# Altium integrated library NSC LDO.IntLib: 2590 symbols (part 34 of 64)
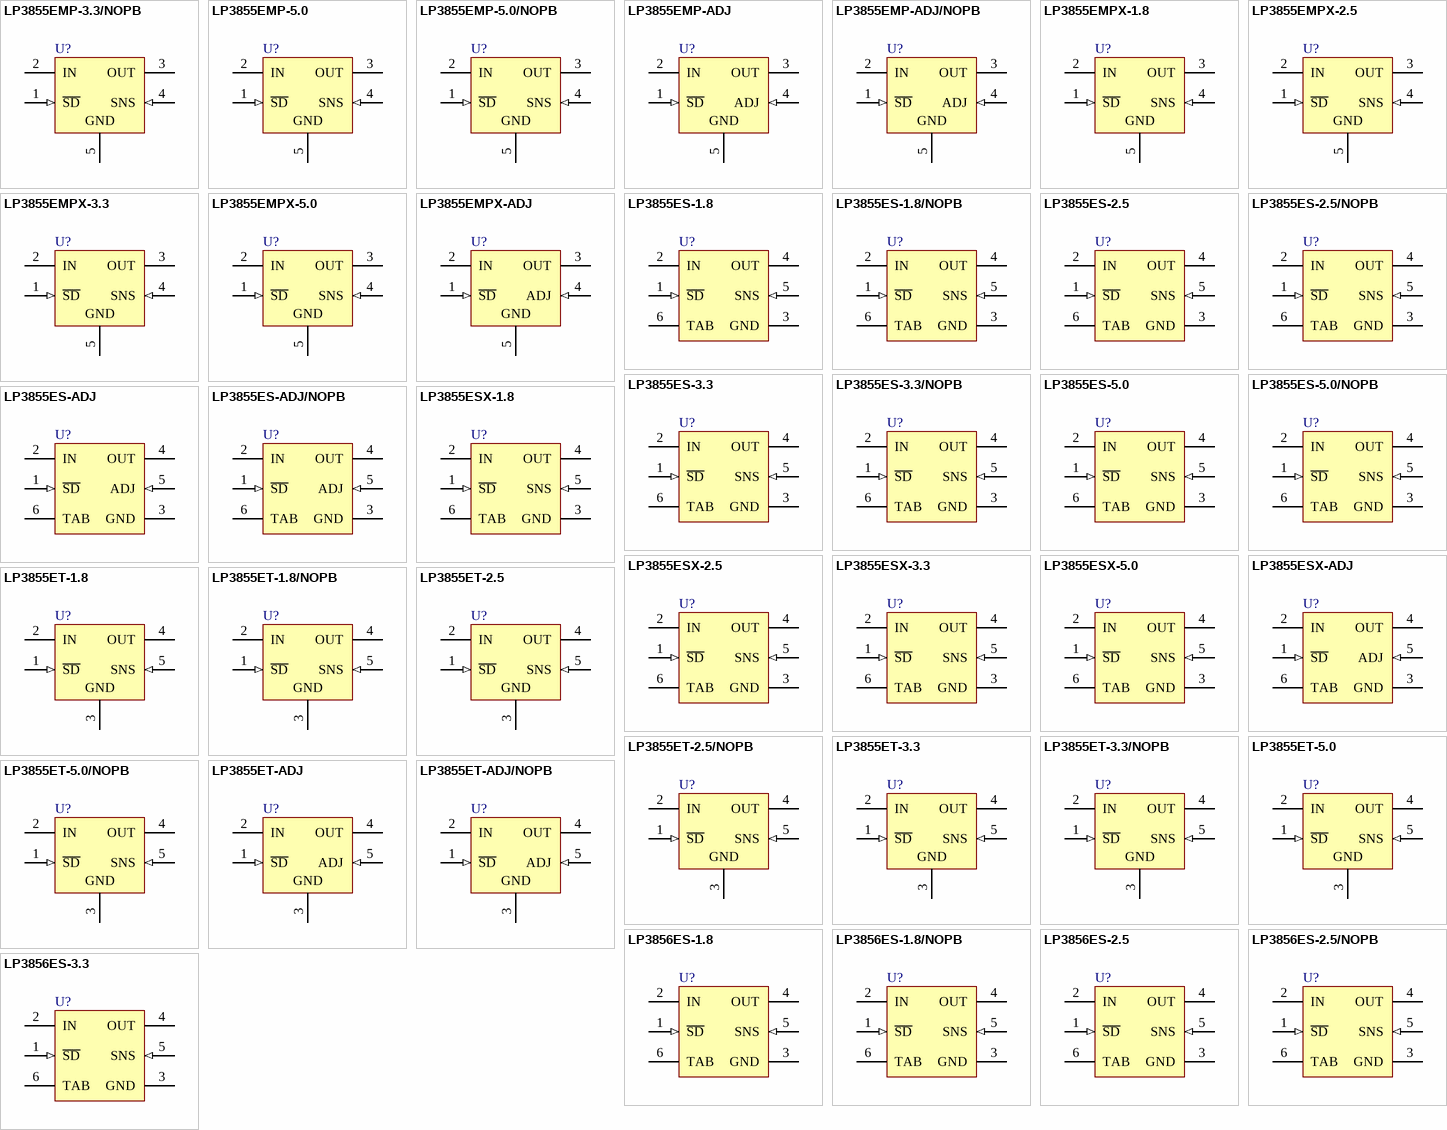
[diagram p98: symbols LP3855EMP-3.3/NOPB to LP3856ES-3.3]

## LP3855ES-ADJ
designator U?
1.5A Fast Ultra Low Dropout Linear Regulator, 5-pin TO-263; PartNumber: LP3855ES-ADJ; Manufacturer: National Semiconductor; PackageTopMarking: NSUZXYTTE#*LP3855ES*-ADJ; PowerWise: N; CompType: LDO IC; Published: 4-Dec-2008; DatasheetVersion: Sep-2008; PackageVersion: revD, Apr-2005; PackageReference: TS5B; Publisher: Altium Limited; PackageDescription: TO-263, Molded, .400 x .390 x .180in, 5 Lead, .067in Pitch, Surface Mount; Supplier 1: Farnell; Supplier Part Number 1: 8188750; RoHS: N; PinCount: 5; Code_JEDEC: MO-169-AB; ComponentLink1Description: LP3855 Datasheet; ComponentLink1URL: http://www.national.com/ds/LP/LP3855-ADJ.pdf; ComponentLink2Description: LP3855 Web Page; ComponentLink2URL: http://www.national.com/pf/LP/LP3855.html; ComponentLink3Description: TS5B Package Page; ComponentLink3URL: http://www.national.com/packaging/folders/ts5b.html
footprint TS5B_N (D2-PAK, 6-Leads, Body 8.6x10.2mm, Pitch 1.7mm, Lead Span 14.1mm, IPC Medium Density)
footprint TS5B_L (D2-PAK, 6-Leads, Body 8.6x10.2mm, Pitch 1.7mm, Lead Span 14.1mm, IPC High Density)
footprint TS5B_M (D2-PAK, 6-Leads, Body 8.6x10.2mm, Pitch 1.7mm, Lead Span 14.1mm, IPC Low Density)
pins: 1 ~{SD} (in), 2 IN (power), 3 GND (power), 4 OUT (power), 5 ADJ (in), 6 TAB (power)

## LP3855ES-ADJ/NOPB
designator U?
1.5A Fast Ultra Low Dropout Linear Regulator, 5-pin TO-263, Pb-Free; PartNumber: LP3855ES-ADJ/NOPB; Manufacturer: National Semiconductor; PackageTopMarking: NSUZXYTTE#*LP3855ES*-ADJ; PowerWise: N; CompType: LDO IC; Published: 1-Mar-2010; DatasheetVersion: Sep-2008; PackageVersion: revD, Apr-2005; PackageReference: TS5B; Publisher: Altium Limited; PackageDescription: TO-263, Molded, .400 x .390 x .180in, 5 Lead, .067in Pitch, Surface Mount; Supplier 1: Digi-Key; Supplier Part Number 1: LP3855ES-ADJ-ND; Supplier 2: Farnell; Supplier Part Number 2: 1685706; RoHS: Y; PinCount: 5; Code_JEDEC: MO-169-AB; ComponentLink1Description: LP3855 Datasheet; ComponentLink1URL: http://www.national.com/ds/LP/LP3855-ADJ.pdf; ComponentLink2Description: LP3855 Web Page; ComponentLink2URL: http://www.national.com/pf/LP/LP3855.html; ComponentLink3Description: TS5B Package Page; ComponentLink3URL: http://www.national.com/packaging/folders/ts5b.html
footprint TS5B_N (D2-PAK, 6-Leads, Body 8.6x10.2mm, Pitch 1.7mm, Lead Span 14.1mm, IPC Medium Density)
footprint TS5B_L (D2-PAK, 6-Leads, Body 8.6x10.2mm, Pitch 1.7mm, Lead Span 14.1mm, IPC High Density)
footprint TS5B_M (D2-PAK, 6-Leads, Body 8.6x10.2mm, Pitch 1.7mm, Lead Span 14.1mm, IPC Low Density)
pins: 1 ~{SD} (in), 2 IN (power), 3 GND (power), 4 OUT (power), 5 ADJ (in), 6 TAB (power)

## LP3855ESX-1.8
designator U?
1.5A Fast Ultra Low Dropout Linear Regulator, 5-pin TO-263; PartNumber: LP3855ESX-1.8; Manufacturer: National Semiconductor; PackageTopMarking: NSUZXYTTE#*LP3855ES*-1.8; PowerWise: N; CompType: LDO IC; Published: 1-Mar-2010; DatasheetVersion: Sep-2006; PackageVersion: revD, Apr-2005; PackageReference: TS5B; Publisher: Altium Limited; PackageDescription: TO-263, Molded, .400 x .390 x .180in, 5 Lead, .067in Pitch, Surface Mount; RoHS: N; PinCount: 5; Code_JEDEC: MO-169-AB; ComponentLink1Description: LP3855 Datasheet; ComponentLink1URL: http://www.national.com/ds/LP/LP3855.pdf; ComponentLink2Description: LP3855 Web Page; ComponentLink2URL: http://www.national.com/pf/LP/LP3855.html; ComponentLink3Description: TS5B Package Page; ComponentLink3URL: http://www.national.com/packaging/folders/ts5b.html
footprint TS5B_N (D2-PAK, 6-Leads, Body 8.6x10.2mm, Pitch 1.7mm, Lead Span 14.1mm, IPC Medium Density)
footprint TS5B_L (D2-PAK, 6-Leads, Body 8.6x10.2mm, Pitch 1.7mm, Lead Span 14.1mm, IPC High Density)
footprint TS5B_M (D2-PAK, 6-Leads, Body 8.6x10.2mm, Pitch 1.7mm, Lead Span 14.1mm, IPC Low Density)
pins: 1 ~{SD} (in), 2 IN (power), 3 GND (power), 4 OUT (power), 5 SNS (in), 6 TAB (power)

## LP3855ESX-2.5
designator U?
1.5A Fast Ultra Low Dropout Linear Regulator, 5-pin TO-263; PartNumber: LP3855ESX-2.5; Manufacturer: National Semiconductor; PackageTopMarking: NSUZXYTTE#*LP3855ES*-2.5; PowerWise: N; CompType: LDO IC; Published: 1-Mar-2010; DatasheetVersion: Sep-2006; PackageVersion: revD, Apr-2005; PackageReference: TS5B; Publisher: Altium Limited; PackageDescription: TO-263, Molded, .400 x .390 x .180in, 5 Lead, .067in Pitch, Surface Mount; RoHS: N; PinCount: 5; Code_JEDEC: MO-169-AB; ComponentLink1Description: LP3855 Datasheet; ComponentLink1URL: http://www.national.com/ds/LP/LP3855.pdf; ComponentLink2Description: LP3855 Web Page; ComponentLink2URL: http://www.national.com/pf/LP/LP3855.html; ComponentLink3Description: TS5B Package Page; ComponentLink3URL: http://www.national.com/packaging/folders/ts5b.html
footprint TS5B_N (D2-PAK, 6-Leads, Body 8.6x10.2mm, Pitch 1.7mm, Lead Span 14.1mm, IPC Medium Density)
footprint TS5B_L (D2-PAK, 6-Leads, Body 8.6x10.2mm, Pitch 1.7mm, Lead Span 14.1mm, IPC High Density)
footprint TS5B_M (D2-PAK, 6-Leads, Body 8.6x10.2mm, Pitch 1.7mm, Lead Span 14.1mm, IPC Low Density)
pins: 1 ~{SD} (in), 2 IN (power), 3 GND (power), 4 OUT (power), 5 SNS (in), 6 TAB (power)

## LP3855ESX-3.3
designator U?
1.5A Fast Ultra Low Dropout Linear Regulator, 5-pin TO-263; PartNumber: LP3855ESX-3.3; Manufacturer: National Semiconductor; PackageTopMarking: NSUZXYTTE#*LP3855ES*-3.3; PowerWise: N; CompType: LDO IC; Published: 1-Mar-2010; DatasheetVersion: Sep-2006; PackageVersion: revD, Apr-2005; PackageReference: TS5B; Publisher: Altium Limited; PackageDescription: TO-263, Molded, .400 x .390 x .180in, 5 Lead, .067in Pitch, Surface Mount; RoHS: N; PinCount: 5; Code_JEDEC: MO-169-AB; ComponentLink1Description: LP3855 Datasheet; ComponentLink1URL: http://www.national.com/ds/LP/LP3855.pdf; ComponentLink2Description: LP3855 Web Page; ComponentLink2URL: http://www.national.com/pf/LP/LP3855.html; ComponentLink3Description: TS5B Package Page; ComponentLink3URL: http://www.national.com/packaging/folders/ts5b.html
footprint TS5B_N (D2-PAK, 6-Leads, Body 8.6x10.2mm, Pitch 1.7mm, Lead Span 14.1mm, IPC Medium Density)
footprint TS5B_L (D2-PAK, 6-Leads, Body 8.6x10.2mm, Pitch 1.7mm, Lead Span 14.1mm, IPC High Density)
footprint TS5B_M (D2-PAK, 6-Leads, Body 8.6x10.2mm, Pitch 1.7mm, Lead Span 14.1mm, IPC Low Density)
pins: 1 ~{SD} (in), 2 IN (power), 3 GND (power), 4 OUT (power), 5 SNS (in), 6 TAB (power)

## LP3855ESX-5.0
designator U?
1.5A Fast Ultra Low Dropout Linear Regulator, 5-pin TO-263; PartNumber: LP3855ESX-5.0; Manufacturer: National Semiconductor; PackageTopMarking: NSUZXYTTE#*LP3855ES*-5.0; PowerWise: N; CompType: LDO IC; Published: 1-Mar-2010; DatasheetVersion: Sep-2006; PackageVersion: revD, Apr-2005; PackageReference: TS5B; Publisher: Altium Limited; PackageDescription: TO-263, Molded, .400 x .390 x .180in, 5 Lead, .067in Pitch, Surface Mount; RoHS: N; PinCount: 5; Code_JEDEC: MO-169-AB; ComponentLink1Description: LP3855 Datasheet; ComponentLink1URL: http://www.national.com/ds/LP/LP3855.pdf; ComponentLink2Description: LP3855 Web Page; ComponentLink2URL: http://www.national.com/pf/LP/LP3855.html; ComponentLink3Description: TS5B Package Page; ComponentLink3URL: http://www.national.com/packaging/folders/ts5b.html
footprint TS5B_N (D2-PAK, 6-Leads, Body 8.6x10.2mm, Pitch 1.7mm, Lead Span 14.1mm, IPC Medium Density)
footprint TS5B_L (D2-PAK, 6-Leads, Body 8.6x10.2mm, Pitch 1.7mm, Lead Span 14.1mm, IPC High Density)
footprint TS5B_M (D2-PAK, 6-Leads, Body 8.6x10.2mm, Pitch 1.7mm, Lead Span 14.1mm, IPC Low Density)
pins: 1 ~{SD} (in), 2 IN (power), 3 GND (power), 4 OUT (power), 5 SNS (in), 6 TAB (power)

## LP3855ESX-ADJ
designator U?
1.5A Fast Ultra Low Dropout Linear Regulator, 5-pin TO-263; PartNumber: LP3855ESX-ADJ; Manufacturer: National Semiconductor; PackageTopMarking: NSUZXYTTE#*LP3855ES*-ADJ; PowerWise: N; CompType: LDO IC; Published: 1-Mar-2010; DatasheetVersion: Sep-2008; PackageVersion: revD, Apr-2005; PackageReference: TS5B; Publisher: Altium Limited; PackageDescription: TO-263, Molded, .400 x .390 x .180in, 5 Lead, .067in Pitch, Surface Mount; RoHS: N; PinCount: 5; Code_JEDEC: MO-169-AB; ComponentLink1Description: LP3855 Datasheet; ComponentLink1URL: http://www.national.com/ds/LP/LP3855-ADJ.pdf; ComponentLink2Description: LP3855 Web Page; ComponentLink2URL: http://www.national.com/pf/LP/LP3855.html; ComponentLink3Description: TS5B Package Page; ComponentLink3URL: http://www.national.com/packaging/folders/ts5b.html
footprint TS5B_N (D2-PAK, 6-Leads, Body 8.6x10.2mm, Pitch 1.7mm, Lead Span 14.1mm, IPC Medium Density)
footprint TS5B_L (D2-PAK, 6-Leads, Body 8.6x10.2mm, Pitch 1.7mm, Lead Span 14.1mm, IPC High Density)
footprint TS5B_M (D2-PAK, 6-Leads, Body 8.6x10.2mm, Pitch 1.7mm, Lead Span 14.1mm, IPC Low Density)
pins: 1 ~{SD} (in), 2 IN (power), 3 GND (power), 4 OUT (power), 5 ADJ (in), 6 TAB (power)

## LP3855ET-1.8
designator U?
1.5A Fast Ultra Low Dropout Linear Regulator, 5-pin TO-220; PartNumber: LP3855ET-1.8; Manufacturer: National Semiconductor; PackageTopMarking: NSUZXYTTE#*LP3855ET*-1.8; PowerWise: N; CompType: LDO IC; Published: 4-Dec-2008; DatasheetVersion: Sep-2006; PackageVersion: revA, Oct-1989; PackageReference: T05D; Publisher: Altium Limited; PackageDescription: TO-220, Molded, Stagger Bend, 5 Lead; Supplier 1: Farnell; Supplier Part Number 1: 8188106; RoHS: N; PinCount: 5; ComponentLink1Description: LP3855 Datasheet; ComponentLink1URL: http://www.national.com/ds/LP/LP3855.pdf; ComponentLink2Description: LP3855 Web Page; ComponentLink2URL: http://www.national.com/pf/LP/LP3855.html; ComponentLink3Description: T05D Package Page; ComponentLink3URL: http://www.national.com/packaging/folders/t05d.html
footprint T05D (TO, Thru-Hole, Vertical, Heatsink Mounted; 5 Bent Staggered Leads; Body 10.3x8.6x4.6mm, Pitch 1.7 mm)
pins: 1 ~{SD} (in), 2 IN (power), 3 GND (power), 4 OUT (power), 5 SNS (in)

## LP3855ET-1.8/NOPB
designator U?
1.5A Fast Ultra Low Dropout Linear Regulator, 5-pin TO-220, Pb-Free; PartNumber: LP3855ET-1.8/NOPB; Manufacturer: National Semiconductor; PackageTopMarking: NSUZXYTTE#*LP3855ET*-1.8; PowerWise: N; CompType: LDO IC; Published: 1-Mar-2010; DatasheetVersion: Sep-2006; PackageVersion: revA, Oct-1989; PackageReference: T05D; Publisher: Altium Limited; PackageDescription: TO-220, Molded, Stagger Bend, 5 Lead; Supplier 1: Digi-Key; Supplier Part Number 1: LP3855ET-1.8/NOPB-ND; RoHS: Y; PinCount: 5; ComponentLink1Description: LP3855 Datasheet; ComponentLink1URL: http://www.national.com/ds/LP/LP3855.pdf; ComponentLink2Description: LP3855 Web Page; ComponentLink2URL: http://www.national.com/pf/LP/LP3855.html; ComponentLink3Description: T05D Package Page; ComponentLink3URL: http://www.national.com/packaging/folders/t05d.html
footprint T05D (TO, Thru-Hole, Vertical, Heatsink Mounted; 5 Bent Staggered Leads; Body 10.3x8.6x4.6mm, Pitch 1.7 mm)
pins: 1 ~{SD} (in), 2 IN (power), 3 GND (power), 4 OUT (power), 5 SNS (in)

## LP3855ET-2.5
designator U?
1.5A Fast Ultra Low Dropout Linear Regulator, 5-pin TO-220; PartNumber: LP3855ET-2.5; Manufacturer: National Semiconductor; PackageTopMarking: NSUZXYTTE#*LP3855ET*-2.5; PowerWise: N; CompType: LDO IC; Published: 4-Dec-2008; DatasheetVersion: Sep-2006; PackageVersion: revA, Oct-1989; PackageReference: T05D; Publisher: Altium Limited; PackageDescription: TO-220, Molded, Stagger Bend, 5 Lead; Supplier 1: Farnell; Supplier Part Number 1: 8188114; RoHS: N; PinCount: 5; ComponentLink1Description: LP3855 Datasheet; ComponentLink1URL: http://www.national.com/ds/LP/LP3855.pdf; ComponentLink2Description: LP3855 Web Page; ComponentLink2URL: http://www.national.com/pf/LP/LP3855.html; ComponentLink3Description: T05D Package Page; ComponentLink3URL: http://www.national.com/packaging/folders/t05d.html
footprint T05D (TO, Thru-Hole, Vertical, Heatsink Mounted; 5 Bent Staggered Leads; Body 10.3x8.6x4.6mm, Pitch 1.7 mm)
pins: 1 ~{SD} (in), 2 IN (power), 3 GND (power), 4 OUT (power), 5 SNS (in)

## LP3855ET-2.5/NOPB
designator U?
1.5A Fast Ultra Low Dropout Linear Regulator, 5-pin TO-220, Pb-Free; PartNumber: LP3855ET-2.5/NOPB; Manufacturer: National Semiconductor; PackageTopMarking: NSUZXYTTE#*LP3855ET*-2.5; PowerWise: N; CompType: LDO IC; Published: 1-Mar-2010; DatasheetVersion: Sep-2006; PackageVersion: revA, Oct-1989; PackageReference: T05D; Publisher: Altium Limited; PackageDescription: TO-220, Molded, Stagger Bend, 5 Lead; Supplier 1: Digi-Key; Supplier Part Number 1: LP3855ET-2.5-ND; RoHS: Y; PinCount: 5; ComponentLink1Description: LP3855 Datasheet; ComponentLink1URL: http://www.national.com/ds/LP/LP3855.pdf; ComponentLink2Description: LP3855 Web Page; ComponentLink2URL: http://www.national.com/pf/LP/LP3855.html; ComponentLink3Description: T05D Package Page; ComponentLink3URL: http://www.national.com/packaging/folders/t05d.html
footprint T05D (TO, Thru-Hole, Vertical, Heatsink Mounted; 5 Bent Staggered Leads; Body 10.3x8.6x4.6mm, Pitch 1.7 mm)
pins: 1 ~{SD} (in), 2 IN (power), 3 GND (power), 4 OUT (power), 5 SNS (in)

## LP3855ET-3.3
designator U?
1.5A Fast Ultra Low Dropout Linear Regulator, 5-pin TO-220; PartNumber: LP3855ET-3.3; Manufacturer: National Semiconductor; PackageTopMarking: NSUZXYTTE#*LP3855ET*-3.3; PowerWise: N; CompType: LDO IC; Published: 4-Dec-2008; DatasheetVersion: Sep-2006; PackageVersion: revA, Oct-1989; PackageReference: T05D; Publisher: Altium Limited; PackageDescription: TO-220, Molded, Stagger Bend, 5 Lead; Supplier 1: Farnell; Supplier Part Number 1: 8188122; RoHS: N; PinCount: 5; ComponentLink1Description: LP3855 Datasheet; ComponentLink1URL: http://www.national.com/ds/LP/LP3855.pdf; ComponentLink2Description: LP3855 Web Page; ComponentLink2URL: http://www.national.com/pf/LP/LP3855.html; ComponentLink3Description: T05D Package Page; ComponentLink3URL: http://www.national.com/packaging/folders/t05d.html
footprint T05D (TO, Thru-Hole, Vertical, Heatsink Mounted; 5 Bent Staggered Leads; Body 10.3x8.6x4.6mm, Pitch 1.7 mm)
pins: 1 ~{SD} (in), 2 IN (power), 3 GND (power), 4 OUT (power), 5 SNS (in)

## LP3855ET-3.3/NOPB
designator U?
1.5A Fast Ultra Low Dropout Linear Regulator, 5-pin TO-220, Pb-Free; PartNumber: LP3855ET-3.3/NOPB; Manufacturer: National Semiconductor; PackageTopMarking: NSUZXYTTE#*LP3855ET*-3.3; PowerWise: N; CompType: LDO IC; Published: 1-Mar-2010; DatasheetVersion: Sep-2006; PackageVersion: revA, Oct-1989; PackageReference: T05D; Publisher: Altium Limited; PackageDescription: TO-220, Molded, Stagger Bend, 5 Lead; Supplier 1: Digi-Key; Supplier Part Number 1: LP3855ET-3.3-ND; RoHS: Y; PinCount: 5; ComponentLink1Description: LP3855 Datasheet; ComponentLink1URL: http://www.national.com/ds/LP/LP3855.pdf; ComponentLink2Description: LP3855 Web Page; ComponentLink2URL: http://www.national.com/pf/LP/LP3855.html; ComponentLink3Description: T05D Package Page; ComponentLink3URL: http://www.national.com/packaging/folders/t05d.html
footprint T05D (TO, Thru-Hole, Vertical, Heatsink Mounted; 5 Bent Staggered Leads; Body 10.3x8.6x4.6mm, Pitch 1.7 mm)
pins: 1 ~{SD} (in), 2 IN (power), 3 GND (power), 4 OUT (power), 5 SNS (in)

## LP3855ET-5.0
designator U?
1.5A Fast Ultra Low Dropout Linear Regulator, 5-pin TO-220; PartNumber: LP3855ET-5.0; Manufacturer: National Semiconductor; PackageTopMarking: NSUZXYTTE#*LP3855ET*-5.0; PowerWise: N; CompType: LDO IC; Published: 4-Dec-2008; DatasheetVersion: Sep-2006; PackageVersion: revA, Oct-1989; PackageReference: T05D; Publisher: Altium Limited; PackageDescription: TO-220, Molded, Stagger Bend, 5 Lead; Supplier 1: Farnell; Supplier Part Number 1: 8188130; RoHS: N; PinCount: 5; ComponentLink1Description: LP3855 Datasheet; ComponentLink1URL: http://www.national.com/ds/LP/LP3855.pdf; ComponentLink2Description: LP3855 Web Page; ComponentLink2URL: http://www.national.com/pf/LP/LP3855.html; ComponentLink3Description: T05D Package Page; ComponentLink3URL: http://www.national.com/packaging/folders/t05d.html
footprint T05D (TO, Thru-Hole, Vertical, Heatsink Mounted; 5 Bent Staggered Leads; Body 10.3x8.6x4.6mm, Pitch 1.7 mm)
pins: 1 ~{SD} (in), 2 IN (power), 3 GND (power), 4 OUT (power), 5 SNS (in)

## LP3855ET-5.0/NOPB
designator U?
1.5A Fast Ultra Low Dropout Linear Regulator, 5-pin TO-220, Pb-Free; PartNumber: LP3855ET-5.0/NOPB; Manufacturer: National Semiconductor; PackageTopMarking: NSUZXYTTE#*LP3855ET*-5.0; PowerWise: N; CompType: LDO IC; Published: 1-Mar-2010; DatasheetVersion: Sep-2006; PackageVersion: revA, Oct-1989; PackageReference: T05D; Publisher: Altium Limited; PackageDescription: TO-220, Molded, Stagger Bend, 5 Lead; Supplier 1: Digi-Key; Supplier Part Number 1: LP3855ET-5.0-ND; RoHS: Y; PinCount: 5; ComponentLink1Description: LP3855 Datasheet; ComponentLink1URL: http://www.national.com/ds/LP/LP3855.pdf; ComponentLink2Description: LP3855 Web Page; ComponentLink2URL: http://www.national.com/pf/LP/LP3855.html; ComponentLink3Description: T05D Package Page; ComponentLink3URL: http://www.national.com/packaging/folders/t05d.html
footprint T05D (TO, Thru-Hole, Vertical, Heatsink Mounted; 5 Bent Staggered Leads; Body 10.3x8.6x4.6mm, Pitch 1.7 mm)
pins: 1 ~{SD} (in), 2 IN (power), 3 GND (power), 4 OUT (power), 5 SNS (in)

## LP3855ET-ADJ
designator U?
1.5A Fast Ultra Low Dropout Linear Regulator, 5-pin TO-220; PartNumber: LP3855ET-ADJ; Manufacturer: National Semiconductor; PackageTopMarking: NSUZXYTTE#*LP3855ET*-ADJ; PowerWise: N; CompType: LDO IC; Published: 4-Dec-2008; DatasheetVersion: Sep-2008; PackageVersion: revA, Oct-1989; PackageReference: T05D; Publisher: Altium Limited; PackageDescription: TO-220, Molded, Stagger Bend, 5 Lead; Supplier 1: Farnell; Supplier Part Number 1: 8188742; RoHS: Y; PinCount: 5; ComponentLink1Description: LP3855-ADJ Datasheet; ComponentLink1URL: http://www.national.com/ds/LP/LP3855-ADJ.pdf; ComponentLink2Description: LP3855-ADJ Web Page; ComponentLink2URL: http://www.national.com/pf/LP/LP3855-ADJ.html; ComponentLink3Description: T05D Package Page; ComponentLink3URL: http://www.national.com/packaging/folders/t05d.html
footprint T05D (TO, Thru-Hole, Vertical, Heatsink Mounted; 5 Bent Staggered Leads; Body 10.3x8.6x4.6mm, Pitch 1.7 mm)
pins: 1 ~{SD} (in), 2 IN (power), 3 GND (power), 4 OUT (power), 5 ADJ (in)

## LP3855ET-ADJ/NOPB
designator U?
1.5A Fast Ultra Low Dropout Linear Regulator, 5-pin TO-220, Pb-Free; PartNumber: LP3855ET-ADJ/NOPB; Manufacturer: National Semiconductor; PackageTopMarking: NSUZXYTTE#*LP3855ET*-ADJ; PowerWise: N; CompType: LDO IC; Published: 1-Mar-2010; DatasheetVersion: Sep-2008; PackageVersion: revA, Oct-1989; PackageReference: T05D; Publisher: Altium Limited; PackageDescription: TO-220, Molded, Stagger Bend, 5 Lead; Supplier 1: Digi-Key; Supplier Part Number 1: LP3855ET-ADJ-ND; RoHS: Y; PinCount: 5; ComponentLink1Description: LP3855 Datasheet; ComponentLink1URL: http://www.national.com/ds/LP/LP3855-ADJ.pdf; ComponentLink2Description: LP3855 Web Page; ComponentLink2URL: http://www.national.com/pf/LP/LP3855.html; ComponentLink3Description: T05D Package Page; ComponentLink3URL: http://www.national.com/packaging/folders/t05d.html
footprint T05D (TO, Thru-Hole, Vertical, Heatsink Mounted; 5 Bent Staggered Leads; Body 10.3x8.6x4.6mm, Pitch 1.7 mm)
pins: 1 ~{SD} (in), 2 IN (power), 3 GND (power), 4 OUT (power), 5 ADJ (in)

## LP3856ES-1.8
designator U?
3A Fast Ultra Low Dropout Linear Regulator, 5-pin TO-263; PartNumber: LP3856ES-1.8; Manufacturer: National Semiconductor; PackageTopMarking: NSUZXYTTE#*LP3856ES*-1.8; PowerWise: N; CompType: LDO IC; Published: 4-Dec-2008; DatasheetVersion: Sep-2006; PackageVersion: revD, Apr-2005; PackageReference: TS5B; Publisher: Altium Limited; PackageDescription: TO-263, Molded, .400 x .390 x .180in, 5 Lead, .067in Pitch, Surface Mount; Supplier 1: Farnell; Supplier Part Number 1: 8188149; RoHS: N; PinCount: 5; Code_JEDEC: MO-169-AB; ComponentLink1Description: LP3856 Datasheet; ComponentLink1URL: http://www.national.com/ds/LP/LP3856.pdf; ComponentLink2Description: LP3856 Web Page; ComponentLink2URL: http://www.national.com/pf/LP/LP3856.html; ComponentLink3Description: TS5B Package Page; ComponentLink3URL: http://www.national.com/packaging/folders/ts5b.html
footprint TS5B_N (D2-PAK, 6-Leads, Body 8.6x10.2mm, Pitch 1.7mm, Lead Span 14.1mm, IPC Medium Density)
footprint TS5B_L (D2-PAK, 6-Leads, Body 8.6x10.2mm, Pitch 1.7mm, Lead Span 14.1mm, IPC High Density)
footprint TS5B_M (D2-PAK, 6-Leads, Body 8.6x10.2mm, Pitch 1.7mm, Lead Span 14.1mm, IPC Low Density)
pins: 1 ~{SD} (in), 2 IN (power), 3 GND (power), 4 OUT (power), 5 SNS (in), 6 TAB (power)

## LP3856ES-1.8/NOPB
designator U?
3A Fast Ultra Low Dropout Linear Regulator, 5-pin TO-263, Pb-Free; PartNumber: LP3856ES-1.8/NOPB; Manufacturer: National Semiconductor; PackageTopMarking: NSUZXYTTE#*LP3856ES*-1.8; PowerWise: N; CompType: LDO IC; Published: 1-Mar-2010; DatasheetVersion: Sep-2006; PackageVersion: revD, Apr-2005; PackageReference: TS5B; Publisher: Altium Limited; PackageDescription: TO-263, Molded, .400 x .390 x .180in, 5 Lead, .067in Pitch, Surface Mount; Supplier 1: Digi-Key; Supplier Part Number 1: LP3856ES-1.8-ND; Supplier 2: Farnell; Supplier Part Number 2: 1559621; RoHS: Y; PinCount: 5; Code_JEDEC: MO-169-AB; ComponentLink1Description: LP3856 Datasheet; ComponentLink1URL: http://www.national.com/ds/LP/LP3856.pdf; ComponentLink2Description: LP3856 Web Page; ComponentLink2URL: http://www.national.com/pf/LP/LP3856.html; ComponentLink3Description: TS5B Package Page; ComponentLink3URL: http://www.national.com/packaging/folders/ts5b.html
footprint TS5B_N (D2-PAK, 6-Leads, Body 8.6x10.2mm, Pitch 1.7mm, Lead Span 14.1mm, IPC Medium Density)
footprint TS5B_L (D2-PAK, 6-Leads, Body 8.6x10.2mm, Pitch 1.7mm, Lead Span 14.1mm, IPC High Density)
footprint TS5B_M (D2-PAK, 6-Leads, Body 8.6x10.2mm, Pitch 1.7mm, Lead Span 14.1mm, IPC Low Density)
pins: 1 ~{SD} (in), 2 IN (power), 3 GND (power), 4 OUT (power), 5 SNS (in), 6 TAB (power)

## LP3856ES-2.5
designator U?
3A Fast Ultra Low Dropout Linear Regulator, 5-pin TO-263; PartNumber: LP3856ES-2.5; Manufacturer: National Semiconductor; PackageTopMarking: NSUZXYTTE#*LP3856ES*-2.5; PowerWise: N; CompType: LDO IC; Published: 4-Dec-2008; DatasheetVersion: Sep-2006; PackageVersion: revD, Apr-2005; PackageReference: TS5B; Publisher: Altium Limited; PackageDescription: TO-263, Molded, .400 x .390 x .180in, 5 Lead, .067in Pitch, Surface Mount; Supplier 1: Farnell; Supplier Part Number 1: 8188157; RoHS: N; PinCount: 5; Code_JEDEC: MO-169-AB; ComponentLink1Description: LP3856 Datasheet; ComponentLink1URL: http://www.national.com/ds/LP/LP3856.pdf; ComponentLink2Description: LP3856 Web Page; ComponentLink2URL: http://www.national.com/pf/LP/LP3856.html; ComponentLink3Description: TS5B Package Page; ComponentLink3URL: http://www.national.com/packaging/folders/ts5b.html
footprint TS5B_N (D2-PAK, 6-Leads, Body 8.6x10.2mm, Pitch 1.7mm, Lead Span 14.1mm, IPC Medium Density)
footprint TS5B_L (D2-PAK, 6-Leads, Body 8.6x10.2mm, Pitch 1.7mm, Lead Span 14.1mm, IPC High Density)
footprint TS5B_M (D2-PAK, 6-Leads, Body 8.6x10.2mm, Pitch 1.7mm, Lead Span 14.1mm, IPC Low Density)
pins: 1 ~{SD} (in), 2 IN (power), 3 GND (power), 4 OUT (power), 5 SNS (in), 6 TAB (power)

## LP3856ES-2.5/NOPB
designator U?
3A Fast Ultra Low Dropout Linear Regulator, 5-pin TO-263, Pb-Free; PartNumber: LP3856ES-2.5/NOPB; Manufacturer: National Semiconductor; PackageTopMarking: NSUZXYTTE#*LP3856ES*-2.5; PowerWise: N; CompType: LDO IC; Published: 1-Mar-2010; DatasheetVersion: Sep-2006; PackageVersion: revD, Apr-2005; PackageReference: TS5B; Publisher: Altium Limited; PackageDescription: TO-263, Molded, .400 x .390 x .180in, 5 Lead, .067in Pitch, Surface Mount; Supplier 1: Digi-Key; Supplier Part Number 1: LP3856ES-2.5-ND; Supplier 2: Farnell; Supplier Part Number 2: 1685707; RoHS: Y; PinCount: 5; Code_JEDEC: MO-169-AB; ComponentLink1Description: LP3856 Datasheet; ComponentLink1URL: http://www.national.com/ds/LP/LP3856.pdf; ComponentLink2Description: LP3856 Web Page; ComponentLink2URL: http://www.national.com/pf/LP/LP3856.html; ComponentLink3Description: TS5B Package Page; ComponentLink3URL: http://www.national.com/packaging/folders/ts5b.html
footprint TS5B_N (D2-PAK, 6-Leads, Body 8.6x10.2mm, Pitch 1.7mm, Lead Span 14.1mm, IPC Medium Density)
footprint TS5B_L (D2-PAK, 6-Leads, Body 8.6x10.2mm, Pitch 1.7mm, Lead Span 14.1mm, IPC High Density)
footprint TS5B_M (D2-PAK, 6-Leads, Body 8.6x10.2mm, Pitch 1.7mm, Lead Span 14.1mm, IPC Low Density)
pins: 1 ~{SD} (in), 2 IN (power), 3 GND (power), 4 OUT (power), 5 SNS (in), 6 TAB (power)

## LP3856ES-3.3
designator U?
3A Fast Ultra Low Dropout Linear Regulator, 5-pin TO-263; PartNumber: LP3856ES-3.3; Manufacturer: National Semiconductor; PackageTopMarking: NSUZXYTTE#*LP3856ES*-3.3; PowerWise: N; CompType: LDO IC; Published: 4-Dec-2008; DatasheetVersion: Sep-2006; PackageVersion: revD, Apr-2005; PackageReference: TS5B; Publisher: Altium Limited; PackageDescription: TO-263, Molded, .400 x .390 x .180in, 5 Lead, .067in Pitch, Surface Mount; Supplier 1: Farnell; Supplier Part Number 1: 8188165; RoHS: N; PinCount: 5; Code_JEDEC: MO-169-AB; ComponentLink1Description: LP3856 Datasheet; ComponentLink1URL: http://www.national.com/ds/LP/LP3856.pdf; ComponentLink2Description: LP3856 Web Page; ComponentLink2URL: http://www.national.com/pf/LP/LP3856.html; ComponentLink3Description: TS5B Package Page; ComponentLink3URL: http://www.national.com/packaging/folders/ts5b.html
footprint TS5B_N (D2-PAK, 6-Leads, Body 8.6x10.2mm, Pitch 1.7mm, Lead Span 14.1mm, IPC Medium Density)
footprint TS5B_L (D2-PAK, 6-Leads, Body 8.6x10.2mm, Pitch 1.7mm, Lead Span 14.1mm, IPC High Density)
footprint TS5B_M (D2-PAK, 6-Leads, Body 8.6x10.2mm, Pitch 1.7mm, Lead Span 14.1mm, IPC Low Density)
pins: 1 ~{SD} (in), 2 IN (power), 3 GND (power), 4 OUT (power), 5 SNS (in), 6 TAB (power)

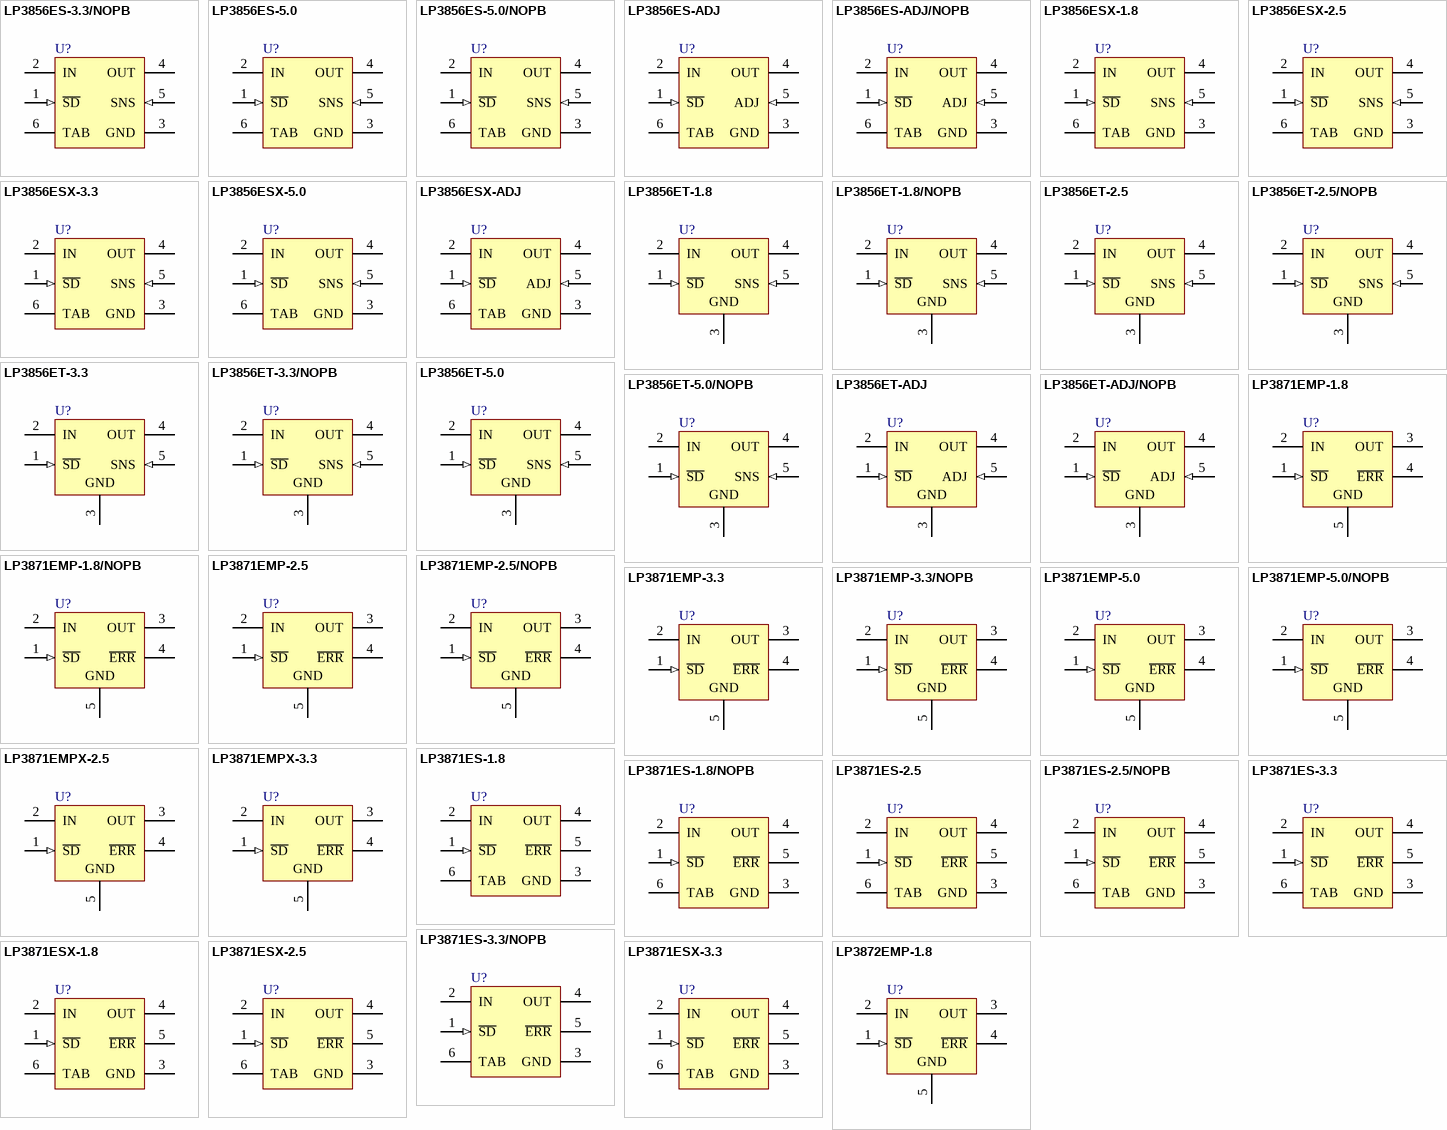
[diagram p35: symbols LP3856ES-3.3/NOPB to LP3872EMP-1.8]

## LP3856ES-3.3/NOPB
designator U?
3A Fast Ultra Low Dropout Linear Regulator, 5-pin TO-263, Pb-Free; PartNumber: LP3856ES-3.3/NOPB; Manufacturer: National Semiconductor; PackageTopMarking: NSUZXYTTE#*LP3856ES*-3.3; PowerWise: N; CompType: LDO IC; Published: 1-Mar-2010; DatasheetVersion: Sep-2006; PackageVersion: revD, Apr-2005; PackageReference: TS5B; Publisher: Altium Limited; PackageDescription: TO-263, Molded, .400 x .390 x .180in, 5 Lead, .067in Pitch, Surface Mount; Supplier 1: Digi-Key; Supplier Part Number 1: LP3856ES-3.3-ND; Supplier 2: Farnell; Supplier Part Number 2: 1559623; RoHS: Y; PinCount: 5; Code_JEDEC: MO-169-AB; ComponentLink1Description: LP3856 Datasheet; ComponentLink1URL: http://www.national.com/ds/LP/LP3856.pdf; ComponentLink2Description: LP3856 Web Page; ComponentLink2URL: http://www.national.com/pf/LP/LP3856.html; ComponentLink3Description: TS5B Package Page; ComponentLink3URL: http://www.national.com/packaging/folders/ts5b.html
footprint TS5B_N (D2-PAK, 6-Leads, Body 8.6x10.2mm, Pitch 1.7mm, Lead Span 14.1mm, IPC Medium Density)
footprint TS5B_L (D2-PAK, 6-Leads, Body 8.6x10.2mm, Pitch 1.7mm, Lead Span 14.1mm, IPC High Density)
footprint TS5B_M (D2-PAK, 6-Leads, Body 8.6x10.2mm, Pitch 1.7mm, Lead Span 14.1mm, IPC Low Density)
pins: 1 ~{SD} (in), 2 IN (power), 3 GND (power), 4 OUT (power), 5 SNS (in), 6 TAB (power)

## LP3856ES-5.0
designator U?
3A Fast Ultra Low Dropout Linear Regulator, 5-pin TO-263; PartNumber: LP3856ES-5.0; Manufacturer: National Semiconductor; PackageTopMarking: NSUZXYTTE#*LP3856ES*-5.0; PowerWise: N; CompType: LDO IC; Published: 4-Dec-2008; DatasheetVersion: Sep-2006; PackageVersion: revD, Apr-2005; PackageReference: TS5B; Publisher: Altium Limited; PackageDescription: TO-263, Molded, .400 x .390 x .180in, 5 Lead, .067in Pitch, Surface Mount; Supplier 1: Farnell; Supplier Part Number 1: 8188173; RoHS: N; PinCount: 5; Code_JEDEC: MO-169-AB; ComponentLink1Description: LP3856 Datasheet; ComponentLink1URL: http://www.national.com/ds/LP/LP3856.pdf; ComponentLink2Description: LP3856 Web Page; ComponentLink2URL: http://www.national.com/pf/LP/LP3856.html; ComponentLink3Description: TS5B Package Page; ComponentLink3URL: http://www.national.com/packaging/folders/ts5b.html
footprint TS5B_N (D2-PAK, 6-Leads, Body 8.6x10.2mm, Pitch 1.7mm, Lead Span 14.1mm, IPC Medium Density)
footprint TS5B_L (D2-PAK, 6-Leads, Body 8.6x10.2mm, Pitch 1.7mm, Lead Span 14.1mm, IPC High Density)
footprint TS5B_M (D2-PAK, 6-Leads, Body 8.6x10.2mm, Pitch 1.7mm, Lead Span 14.1mm, IPC Low Density)
pins: 1 ~{SD} (in), 2 IN (power), 3 GND (power), 4 OUT (power), 5 SNS (in), 6 TAB (power)

## LP3856ES-5.0/NOPB
designator U?
3A Fast Ultra Low Dropout Linear Regulator, 5-pin TO-263, Pb-Free; PartNumber: LP3856ES-5.0/NOPB; Manufacturer: National Semiconductor; PackageTopMarking: NSUZXYTTE#*LP3856ES*-5.0; PowerWise: N; CompType: LDO IC; Published: 1-Mar-2010; DatasheetVersion: Sep-2006; PackageVersion: revD, Apr-2005; PackageReference: TS5B; Publisher: Altium Limited; PackageDescription: TO-263, Molded, .400 x .390 x .180in, 5 Lead, .067in Pitch, Surface Mount; Supplier 1: Digi-Key; Supplier Part Number 1: LP3856ES-5.0-ND; RoHS: Y; PinCount: 5; Code_JEDEC: MO-169-AB; ComponentLink1Description: LP3856 Datasheet; ComponentLink1URL: http://www.national.com/ds/LP/LP3856.pdf; ComponentLink2Description: LP3856 Web Page; ComponentLink2URL: http://www.national.com/pf/LP/LP3856.html; ComponentLink3Description: TS5B Package Page; ComponentLink3URL: http://www.national.com/packaging/folders/ts5b.html
footprint TS5B_N (D2-PAK, 6-Leads, Body 8.6x10.2mm, Pitch 1.7mm, Lead Span 14.1mm, IPC Medium Density)
footprint TS5B_L (D2-PAK, 6-Leads, Body 8.6x10.2mm, Pitch 1.7mm, Lead Span 14.1mm, IPC High Density)
footprint TS5B_M (D2-PAK, 6-Leads, Body 8.6x10.2mm, Pitch 1.7mm, Lead Span 14.1mm, IPC Low Density)
pins: 1 ~{SD} (in), 2 IN (power), 3 GND (power), 4 OUT (power), 5 SNS (in), 6 TAB (power)

## LP3856ES-ADJ
designator U?
3A Fast Ultra Low Dropout Linear Regulator, 5-pin TO-263; PartNumber: LP3856ES-ADJ; Manufacturer: National Semiconductor; PackageTopMarking: NSUZXYTTE#*LP3856ES*-ADJ; PowerWise: N; CompType: LDO IC; Published: 4-Dec-2008; DatasheetVersion: Sep-2006; PackageVersion: revD, Apr-2005; PackageReference: TS5B; Publisher: Altium Limited; PackageDescription: TO-263, Molded, .400 x .390 x .180in, 5 Lead, .067in Pitch, Surface Mount; Supplier 1: Farnell; Supplier Part Number 1: 8188734; RoHS: N; PinCount: 5; Code_JEDEC: MO-169-AB; ComponentLink1Description: LP3856 Datasheet; ComponentLink1URL: http://www.national.com/ds/LP/LP3856-ADJ.pdf; ComponentLink2Description: LP3856 Web Page; ComponentLink2URL: http://www.national.com/pf/LP/LP3856.html; ComponentLink3Description: TS5B Package Page; ComponentLink3URL: http://www.national.com/packaging/folders/ts5b.html
footprint TS5B_N (D2-PAK, 6-Leads, Body 8.6x10.2mm, Pitch 1.7mm, Lead Span 14.1mm, IPC Medium Density)
footprint TS5B_L (D2-PAK, 6-Leads, Body 8.6x10.2mm, Pitch 1.7mm, Lead Span 14.1mm, IPC High Density)
footprint TS5B_M (D2-PAK, 6-Leads, Body 8.6x10.2mm, Pitch 1.7mm, Lead Span 14.1mm, IPC Low Density)
pins: 1 ~{SD} (in), 2 IN (power), 3 GND (power), 4 OUT (power), 5 ADJ (in), 6 TAB (power)

## LP3856ES-ADJ/NOPB
designator U?
3A Fast Ultra Low Dropout Linear Regulator, 5-pin TO-263, Pb-Free; PartNumber: LP3856ES-ADJ/NOPB; Manufacturer: National Semiconductor; PackageTopMarking: NSUZXYTTE#*LP3856ES*-ADJ; PowerWise: N; CompType: LDO IC; Published: 1-Mar-2010; DatasheetVersion: Sep-2006; PackageVersion: revD, Apr-2005; PackageReference: TS5B; Publisher: Altium Limited; PackageDescription: TO-263, Molded, .400 x .390 x .180in, 5 Lead, .067in Pitch, Surface Mount; Supplier 1: Digi-Key; Supplier Part Number 1: LP3856ES-ADJ-ND; Supplier 2: Farnell; Supplier Part Number 2: 1559619; RoHS: Y; PinCount: 5; Code_JEDEC: MO-169-AB; ComponentLink1Description: LP3856 Datasheet; ComponentLink1URL: http://www.national.com/ds/LP/LP3856-ADJ.pdf; ComponentLink2Description: LP3856 Web Page; ComponentLink2URL: http://www.national.com/pf/LP/LP3856.html; ComponentLink3Description: TS5B Package Page; ComponentLink3URL: http://www.national.com/packaging/folders/ts5b.html
footprint TS5B_N (D2-PAK, 6-Leads, Body 8.6x10.2mm, Pitch 1.7mm, Lead Span 14.1mm, IPC Medium Density)
footprint TS5B_L (D2-PAK, 6-Leads, Body 8.6x10.2mm, Pitch 1.7mm, Lead Span 14.1mm, IPC High Density)
footprint TS5B_M (D2-PAK, 6-Leads, Body 8.6x10.2mm, Pitch 1.7mm, Lead Span 14.1mm, IPC Low Density)
pins: 1 ~{SD} (in), 2 IN (power), 3 GND (power), 4 OUT (power), 5 ADJ (in), 6 TAB (power)

## LP3856ESX-1.8
designator U?
3A Fast Ultra Low Dropout Linear Regulator, 5-pin TO-263; PartNumber: LP3856ESX-1.8; Manufacturer: National Semiconductor; PackageTopMarking: NSUZXYTTE#*LP3856ES*-1.8; PowerWise: N; CompType: LDO IC; Published: 1-Mar-2010; DatasheetVersion: Sep-2006; PackageVersion: revD, Apr-2005; PackageReference: TS5B; Publisher: Altium Limited; PackageDescription: TO-263, Molded, .400 x .390 x .180in, 5 Lead, .067in Pitch, Surface Mount; RoHS: N; PinCount: 5; Code_JEDEC: MO-169-AB; ComponentLink1Description: LP3856 Datasheet; ComponentLink1URL: http://www.national.com/ds/LP/LP3856.pdf; ComponentLink2Description: LP3856 Web Page; ComponentLink2URL: http://www.national.com/pf/LP/LP3856.html; ComponentLink3Description: TS5B Package Page; ComponentLink3URL: http://www.national.com/packaging/folders/ts5b.html
footprint TS5B_N (D2-PAK, 6-Leads, Body 8.6x10.2mm, Pitch 1.7mm, Lead Span 14.1mm, IPC Medium Density)
footprint TS5B_L (D2-PAK, 6-Leads, Body 8.6x10.2mm, Pitch 1.7mm, Lead Span 14.1mm, IPC High Density)
footprint TS5B_M (D2-PAK, 6-Leads, Body 8.6x10.2mm, Pitch 1.7mm, Lead Span 14.1mm, IPC Low Density)
pins: 1 ~{SD} (in), 2 IN (power), 3 GND (power), 4 OUT (power), 5 SNS (in), 6 TAB (power)

## LP3856ESX-2.5
designator U?
3A Fast Ultra Low Dropout Linear Regulator, 5-pin TO-263; PartNumber: LP3856ESX-2.5; Manufacturer: National Semiconductor; PackageTopMarking: NSUZXYTTE#*LP3856ES*-2.5; PowerWise: N; CompType: LDO IC; Published: 1-Mar-2010; DatasheetVersion: Sep-2006; PackageVersion: revD, Apr-2005; PackageReference: TS5B; Publisher: Altium Limited; PackageDescription: TO-263, Molded, .400 x .390 x .180in, 5 Lead, .067in Pitch, Surface Mount; RoHS: N; PinCount: 5; Code_JEDEC: MO-169-AB; ComponentLink1Description: LP3856 Datasheet; ComponentLink1URL: http://www.national.com/ds/LP/LP3856.pdf; ComponentLink2Description: LP3856 Web Page; ComponentLink2URL: http://www.national.com/pf/LP/LP3856.html; ComponentLink3Description: TS5B Package Page; ComponentLink3URL: http://www.national.com/packaging/folders/ts5b.html
footprint TS5B_N (D2-PAK, 6-Leads, Body 8.6x10.2mm, Pitch 1.7mm, Lead Span 14.1mm, IPC Medium Density)
footprint TS5B_L (D2-PAK, 6-Leads, Body 8.6x10.2mm, Pitch 1.7mm, Lead Span 14.1mm, IPC High Density)
footprint TS5B_M (D2-PAK, 6-Leads, Body 8.6x10.2mm, Pitch 1.7mm, Lead Span 14.1mm, IPC Low Density)
pins: 1 ~{SD} (in), 2 IN (power), 3 GND (power), 4 OUT (power), 5 SNS (in), 6 TAB (power)

## LP3856ESX-3.3
designator U?
3A Fast Ultra Low Dropout Linear Regulator, 5-pin TO-263; PartNumber: LP3856ESX-3.3; Manufacturer: National Semiconductor; PackageTopMarking: NSUZXYTTE#*LP3856ES*-3.3; PowerWise: N; CompType: LDO IC; Published: 1-Mar-2010; DatasheetVersion: Sep-2006; PackageVersion: revD, Apr-2005; PackageReference: TS5B; Publisher: Altium Limited; PackageDescription: TO-263, Molded, .400 x .390 x .180in, 5 Lead, .067in Pitch, Surface Mount; RoHS: N; PinCount: 5; Code_JEDEC: MO-169-AB; ComponentLink1Description: LP3856 Datasheet; ComponentLink1URL: http://www.national.com/ds/LP/LP3856.pdf; ComponentLink2Description: LP3856 Web Page; ComponentLink2URL: http://www.national.com/pf/LP/LP3856.html; ComponentLink3Description: TS5B Package Page; ComponentLink3URL: http://www.national.com/packaging/folders/ts5b.html
footprint TS5B_N (D2-PAK, 6-Leads, Body 8.6x10.2mm, Pitch 1.7mm, Lead Span 14.1mm, IPC Medium Density)
footprint TS5B_L (D2-PAK, 6-Leads, Body 8.6x10.2mm, Pitch 1.7mm, Lead Span 14.1mm, IPC High Density)
footprint TS5B_M (D2-PAK, 6-Leads, Body 8.6x10.2mm, Pitch 1.7mm, Lead Span 14.1mm, IPC Low Density)
pins: 1 ~{SD} (in), 2 IN (power), 3 GND (power), 4 OUT (power), 5 SNS (in), 6 TAB (power)

## LP3856ESX-5.0
designator U?
3A Fast Ultra Low Dropout Linear Regulator, 5-pin TO-263; PartNumber: LP3856ESX-5.0; Manufacturer: National Semiconductor; PackageTopMarking: NSUZXYTTE#*LP3856ES*-5.0; PowerWise: N; CompType: LDO IC; Published: 1-Mar-2010; DatasheetVersion: Sep-2006; PackageVersion: revD, Apr-2005; PackageReference: TS5B; Publisher: Altium Limited; PackageDescription: TO-263, Molded, .400 x .390 x .180in, 5 Lead, .067in Pitch, Surface Mount; RoHS: N; PinCount: 5; Code_JEDEC: MO-169-AB; ComponentLink1Description: LP3856 Datasheet; ComponentLink1URL: http://www.national.com/ds/LP/LP3856.pdf; ComponentLink2Description: LP3856 Web Page; ComponentLink2URL: http://www.national.com/pf/LP/LP3856.html; ComponentLink3Description: TS5B Package Page; ComponentLink3URL: http://www.national.com/packaging/folders/ts5b.html
footprint TS5B_N (D2-PAK, 6-Leads, Body 8.6x10.2mm, Pitch 1.7mm, Lead Span 14.1mm, IPC Medium Density)
footprint TS5B_L (D2-PAK, 6-Leads, Body 8.6x10.2mm, Pitch 1.7mm, Lead Span 14.1mm, IPC High Density)
footprint TS5B_M (D2-PAK, 6-Leads, Body 8.6x10.2mm, Pitch 1.7mm, Lead Span 14.1mm, IPC Low Density)
pins: 1 ~{SD} (in), 2 IN (power), 3 GND (power), 4 OUT (power), 5 SNS (in), 6 TAB (power)

## LP3856ESX-ADJ
designator U?
3A Fast Ultra Low Dropout Linear Regulator, 5-pin TO-263; PartNumber: LP3856ESX-ADJ; Manufacturer: National Semiconductor; PackageTopMarking: NSUZXYTTE#*LP3856ES*-ADJ; PowerWise: N; CompType: LDO IC; Published: 1-Mar-2010; DatasheetVersion: Sep-2006; PackageVersion: revD, Apr-2005; PackageReference: TS5B; Publisher: Altium Limited; PackageDescription: TO-263, Molded, .400 x .390 x .180in, 5 Lead, .067in Pitch, Surface Mount; RoHS: N; PinCount: 5; Code_JEDEC: MO-169-AB; ComponentLink1Description: LP3856 Datasheet; ComponentLink1URL: http://www.national.com/ds/LP/LP3856-ADJ.pdf; ComponentLink2Description: LP3856 Web Page; ComponentLink2URL: http://www.national.com/pf/LP/LP3856.html; ComponentLink3Description: TS5B Package Page; ComponentLink3URL: http://www.national.com/packaging/folders/ts5b.html
footprint TS5B_N (D2-PAK, 6-Leads, Body 8.6x10.2mm, Pitch 1.7mm, Lead Span 14.1mm, IPC Medium Density)
footprint TS5B_L (D2-PAK, 6-Leads, Body 8.6x10.2mm, Pitch 1.7mm, Lead Span 14.1mm, IPC High Density)
footprint TS5B_M (D2-PAK, 6-Leads, Body 8.6x10.2mm, Pitch 1.7mm, Lead Span 14.1mm, IPC Low Density)
pins: 1 ~{SD} (in), 2 IN (power), 3 GND (power), 4 OUT (power), 5 ADJ (in), 6 TAB (power)

## LP3856ET-1.8
designator U?
3A Fast Ultra Low Dropout Linear Regulator, 5-pin TO-220; PartNumber: LP3856ET-1.8; Manufacturer: National Semiconductor; PackageTopMarking: NSUZXYTTE#*LP3856ET*-1.8; PowerWise: N; CompType: LDO IC; Published: 4-Dec-2008; DatasheetVersion: Sep-2006; PackageVersion: revA, Oct-1989; PackageReference: T05D; Publisher: Altium Limited; PackageDescription: TO-220, Molded, Stagger Bend, 5 Lead; Supplier 1: Farnell; Supplier Part Number 1: 8188181; RoHS: N; PinCount: 5; ComponentLink1Description: LP3856 Datasheet; ComponentLink1URL: http://www.national.com/ds/LP/LP3856.pdf; ComponentLink2Description: LP3856 Web Page; ComponentLink2URL: http://www.national.com/pf/LP/LP3856.html; ComponentLink3Description: T05D Package Page; ComponentLink3URL: http://www.national.com/packaging/folders/t05d.html
footprint T05D (TO, Thru-Hole, Vertical, Heatsink Mounted; 5 Bent Staggered Leads; Body 10.3x8.6x4.6mm, Pitch 1.7 mm)
pins: 1 ~{SD} (in), 2 IN (power), 3 GND (power), 4 OUT (power), 5 SNS (in)

## LP3856ET-1.8/NOPB
designator U?
3A Fast Ultra Low Dropout Linear Regulator, 5-pin TO-220, Pb-Free; PartNumber: LP3856ET-1.8/NOPB; Manufacturer: National Semiconductor; PackageTopMarking: NSUZXYTTE#*LP3856ET*-1.8; PowerWise: N; CompType: LDO IC; Published: 1-Mar-2010; DatasheetVersion: Sep-2006; PackageVersion: revA, Oct-1989; PackageReference: T05D; Publisher: Altium Limited; PackageDescription: TO-220, Molded, Stagger Bend, 5 Lead; Supplier 1: Digi-Key; Supplier Part Number 1: LP3856ET-1.8-ND; RoHS: Y; PinCount: 5; ComponentLink1Description: LP3856 Datasheet; ComponentLink1URL: http://www.national.com/ds/LP/LP3856.pdf; ComponentLink2Description: LP3856 Web Page; ComponentLink2URL: http://www.national.com/pf/LP/LP3856.html; ComponentLink3Description: T05D Package Page; ComponentLink3URL: http://www.national.com/packaging/folders/t05d.html
footprint T05D (TO, Thru-Hole, Vertical, Heatsink Mounted; 5 Bent Staggered Leads; Body 10.3x8.6x4.6mm, Pitch 1.7 mm)
pins: 1 ~{SD} (in), 2 IN (power), 3 GND (power), 4 OUT (power), 5 SNS (in)

## LP3856ET-2.5
designator U?
3A Fast Ultra Low Dropout Linear Regulator, 5-pin TO-220; PartNumber: LP3856ET-2.5; Manufacturer: National Semiconductor; PackageTopMarking: NSUZXYTTE#*LP3856ET*-2.5; PowerWise: N; CompType: LDO IC; Published: 4-Dec-2008; DatasheetVersion: Sep-2006; PackageVersion: revA, Oct-1989; PackageReference: T05D; Publisher: Altium Limited; PackageDescription: TO-220, Molded, Stagger Bend, 5 Lead; Supplier 1: Farnell; Supplier Part Number 1: 8188190; RoHS: N; PinCount: 5; ComponentLink1Description: LP3856 Datasheet; ComponentLink1URL: http://www.national.com/ds/LP/LP3856.pdf; ComponentLink2Description: LP3856 Web Page; ComponentLink2URL: http://www.national.com/pf/LP/LP3856.html; ComponentLink3Description: T05D Package Page; ComponentLink3URL: http://www.national.com/packaging/folders/t05d.html
footprint T05D (TO, Thru-Hole, Vertical, Heatsink Mounted; 5 Bent Staggered Leads; Body 10.3x8.6x4.6mm, Pitch 1.7 mm)
pins: 1 ~{SD} (in), 2 IN (power), 3 GND (power), 4 OUT (power), 5 SNS (in)

## LP3856ET-2.5/NOPB
designator U?
3A Fast Ultra Low Dropout Linear Regulator, 5-pin TO-220, Pb-Free; PartNumber: LP3856ET-2.5/NOPB; Manufacturer: National Semiconductor; PackageTopMarking: NSUZXYTTE#*LP3856ET*-2.5; PowerWise: N; CompType: LDO IC; Published: 1-Mar-2010; DatasheetVersion: Sep-2006; PackageVersion: revA, Oct-1989; PackageReference: T05D; Publisher: Altium Limited; PackageDescription: TO-220, Molded, Stagger Bend, 5 Lead; Supplier 1: Digi-Key; Supplier Part Number 1: LP3856ET-2.5-ND; RoHS: Y; PinCount: 5; ComponentLink1Description: LP3856 Datasheet; ComponentLink1URL: http://www.national.com/ds/LP/LP3856.pdf; ComponentLink2Description: LP3856 Web Page; ComponentLink2URL: http://www.national.com/pf/LP/LP3856.html; ComponentLink3Description: T05D Package Page; ComponentLink3URL: http://www.national.com/packaging/folders/t05d.html
footprint T05D (TO, Thru-Hole, Vertical, Heatsink Mounted; 5 Bent Staggered Leads; Body 10.3x8.6x4.6mm, Pitch 1.7 mm)
pins: 1 ~{SD} (in), 2 IN (power), 3 GND (power), 4 OUT (power), 5 SNS (in)

## LP3856ET-3.3
designator U?
3A Fast Ultra Low Dropout Linear Regulator, 5-pin TO-220; PartNumber: LP3856ET-3.3; Manufacturer: National Semiconductor; PackageTopMarking: NSUZXYTTE#*LP3856ET*-3.3; PowerWise: N; CompType: LDO IC; Published: 4-Dec-2008; DatasheetVersion: Sep-2006; PackageVersion: revA, Oct-1989; PackageReference: T05D; Publisher: Altium Limited; PackageDescription: TO-220, Molded, Stagger Bend, 5 Lead; Supplier 1: Farnell; Supplier Part Number 1: 8188203; RoHS: N; PinCount: 5; ComponentLink1Description: LP3856 Datasheet; ComponentLink1URL: http://www.national.com/ds/LP/LP3856.pdf; ComponentLink2Description: LP3856 Web Page; ComponentLink2URL: http://www.national.com/pf/LP/LP3856.html; ComponentLink3Description: T05D Package Page; ComponentLink3URL: http://www.national.com/packaging/folders/t05d.html
footprint T05D (TO, Thru-Hole, Vertical, Heatsink Mounted; 5 Bent Staggered Leads; Body 10.3x8.6x4.6mm, Pitch 1.7 mm)
pins: 1 ~{SD} (in), 2 IN (power), 3 GND (power), 4 OUT (power), 5 SNS (in)

## LP3856ET-3.3/NOPB
designator U?
3A Fast Ultra Low Dropout Linear Regulator, 5-pin TO-220, Pb-Free; PartNumber: LP3856ET-3.3/NOPB; Manufacturer: National Semiconductor; PackageTopMarking: NSUZXYTTE#*LP3856ET*-3.3; PowerWise: N; CompType: LDO IC; Published: 1-Mar-2010; DatasheetVersion: Sep-2006; PackageVersion: revA, Oct-1989; PackageReference: T05D; Publisher: Altium Limited; PackageDescription: TO-220, Molded, Stagger Bend, 5 Lead; Supplier 1: Digi-Key; Supplier Part Number 1: LP3856ET-3.3-ND; RoHS: Y; PinCount: 5; ComponentLink1Description: LP3856 Datasheet; ComponentLink1URL: http://www.national.com/ds/LP/LP3856.pdf; ComponentLink2Description: LP3856 Web Page; ComponentLink2URL: http://www.national.com/pf/LP/LP3856.html; ComponentLink3Description: T05D Package Page; ComponentLink3URL: http://www.national.com/packaging/folders/t05d.html
footprint T05D (TO, Thru-Hole, Vertical, Heatsink Mounted; 5 Bent Staggered Leads; Body 10.3x8.6x4.6mm, Pitch 1.7 mm)
pins: 1 ~{SD} (in), 2 IN (power), 3 GND (power), 4 OUT (power), 5 SNS (in)

## LP3856ET-5.0
designator U?
3A Fast Ultra Low Dropout Linear Regulator, 5-pin TO-220; PartNumber: LP3856ET-5.0; Manufacturer: National Semiconductor; PackageTopMarking: NSUZXYTTE#*LP3856ET*-5.0; PowerWise: N; CompType: LDO IC; Published: 4-Dec-2008; DatasheetVersion: Sep-2006; PackageVersion: revA, Oct-1989; PackageReference: T05D; Publisher: Altium Limited; PackageDescription: TO-220, Molded, Stagger Bend, 5 Lead; Supplier 1: Farnell; Supplier Part Number 1: 8188211; RoHS: N; PinCount: 5; ComponentLink1Description: LP3856 Datasheet; ComponentLink1URL: http://www.national.com/ds/LP/LP3856.pdf; ComponentLink2Description: LP3856 Web Page; ComponentLink2URL: http://www.national.com/pf/LP/LP3856.html; ComponentLink3Description: T05D Package Page; ComponentLink3URL: http://www.national.com/packaging/folders/t05d.html
footprint T05D (TO, Thru-Hole, Vertical, Heatsink Mounted; 5 Bent Staggered Leads; Body 10.3x8.6x4.6mm, Pitch 1.7 mm)
pins: 1 ~{SD} (in), 2 IN (power), 3 GND (power), 4 OUT (power), 5 SNS (in)

## LP3856ET-5.0/NOPB
designator U?
3A Fast Ultra Low Dropout Linear Regulator, 5-pin TO-220, Pb-Free; PartNumber: LP3856ET-5.0/NOPB; Manufacturer: National Semiconductor; PackageTopMarking: NSUZXYTTE#*LP3856ET*-5.0; PowerWise: N; CompType: LDO IC; Published: 1-Mar-2010; DatasheetVersion: Sep-2006; PackageVersion: revA, Oct-1989; PackageReference: T05D; Publisher: Altium Limited; PackageDescription: TO-220, Molded, Stagger Bend, 5 Lead; Supplier 1: Digi-Key; Supplier Part Number 1: LP3856ET-5.0-ND; RoHS: Y; PinCount: 5; ComponentLink1Description: LP3856 Datasheet; ComponentLink1URL: http://www.national.com/ds/LP/LP3856.pdf; ComponentLink2Description: LP3856 Web Page; ComponentLink2URL: http://www.national.com/pf/LP/LP3856.html; ComponentLink3Description: T05D Package Page; ComponentLink3URL: http://www.national.com/packaging/folders/t05d.html
footprint T05D (TO, Thru-Hole, Vertical, Heatsink Mounted; 5 Bent Staggered Leads; Body 10.3x8.6x4.6mm, Pitch 1.7 mm)
pins: 1 ~{SD} (in), 2 IN (power), 3 GND (power), 4 OUT (power), 5 SNS (in)

## LP3856ET-ADJ
designator U?
3A Fast Ultra Low Dropout Linear Regulator, 5-pin TO-220; PartNumber: LP3856ET-ADJ; Manufacturer: National Semiconductor; PackageTopMarking: NSUZXYTTE#*LP3856ET*-ADJ; PowerWise: N; CompType: LDO IC; Published: 4-Dec-2008; DatasheetVersion: Sep-2006; PackageVersion: revA, Oct-1989; PackageReference: T05D; Publisher: Altium Limited; PackageDescription: TO-220, Molded, Stagger Bend, 5 Lead; Supplier 1: Farnell; Supplier Part Number 1: 8188726; RoHS: N; PinCount: 5; ComponentLink1Description: LP3856 Datasheet; ComponentLink1URL: http://www.national.com/ds/LP/LP3856-ADJ.pdf; ComponentLink2Description: LP3856 Web Page; ComponentLink2URL: http://www.national.com/pf/LP/LP3856.html; ComponentLink3Description: T05D Package Page; ComponentLink3URL: http://www.national.com/packaging/folders/t05d.html
footprint T05D (TO, Thru-Hole, Vertical, Heatsink Mounted; 5 Bent Staggered Leads; Body 10.3x8.6x4.6mm, Pitch 1.7 mm)
pins: 1 ~{SD} (in), 2 IN (power), 3 GND (power), 4 OUT (power), 5 ADJ (in)

## LP3856ET-ADJ/NOPB
designator U?
3A Fast Ultra Low Dropout Linear Regulator, 5-pin TO-220, Pb-Free; PartNumber: LP3856ET-ADJ/NOPB; Manufacturer: National Semiconductor; PackageTopMarking: NSUZXYTTE#*LP3856ET*-ADJ; PowerWise: N; CompType: LDO IC; Published: 1-Mar-2010; DatasheetVersion: Sep-2006; PackageVersion: revA, Oct-1989; PackageReference: T05D; Publisher: Altium Limited; PackageDescription: TO-220, Molded, Stagger Bend, 5 Lead; Supplier 1: Digi-Key; Supplier Part Number 1: LP3856ET-ADJ-ND; RoHS: Y; PinCount: 5; ComponentLink1Description: LP3856 Datasheet; ComponentLink1URL: http://www.national.com/ds/LP/LP3856-ADJ.pdf; ComponentLink2Description: LP3856 Web Page; ComponentLink2URL: http://www.national.com/pf/LP/LP3856.html; ComponentLink3Description: T05D Package Page; ComponentLink3URL: http://www.national.com/packaging/folders/t05d.html
footprint T05D (TO, Thru-Hole, Vertical, Heatsink Mounted; 5 Bent Staggered Leads; Body 10.3x8.6x4.6mm, Pitch 1.7 mm)
pins: 1 ~{SD} (in), 2 IN (power), 3 GND (power), 4 OUT (power), 5 ADJ (in)